# Altium footprint library AD7175-2BRUZ.PcbLib: 3 footprints
Each footprint in its own frame and in the unit in brackets; x right, y up, seen from the top. Pads: shape width x height; smd on the part's side, far side on the other; paste and mask are expansions set on the pad; w line width, h text height; cw(c..) or ccw(c..) is an arc to the next point about the centre after c.
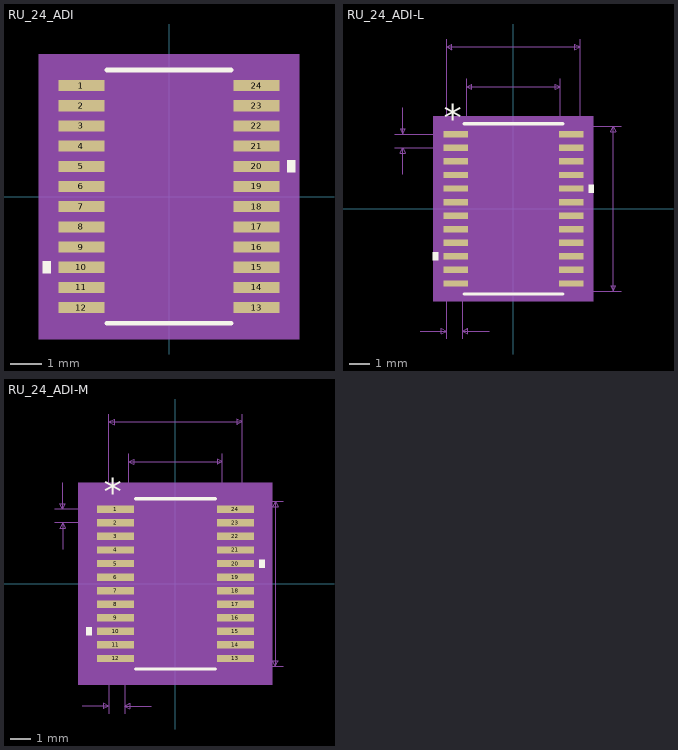
[diagram p0: the footprints below, top view; thin cyan lines are the x and y axes]

## RU_24_ADI [mil]
pads (24):
  rect 58x14 smd paste+0 mask+0: 1(-111,140.75) 2(-111,115.16) 3(-111,89.57) 4(-111,63.98) 5(-111,38.39) 6(-111,12.8) 7(-111,-12.8) 8(-111,-38.39) 9(-111,-63.98) 10(-111,-89.57) 11(-111,-115.16) 12(-111,-140.75) 13(111,-140.75) 14(111,-115.16) 15(111,-89.57) 16(111,-63.98) 17(111,-38.39) 18(111,-12.8) 19(111,12.8) 20(111,38.39) 21(111,63.98) 22(111,89.57) 23(111,115.16) 24(111,140.75)
Top Overlay:
  region: -150,-82.07 -160,-82.07 -160,-97.07 -150,-97.07
  region: 150,45.89 160,45.89 160,30.89 150,30.89
  lines w6: -79,-160.5 79,-160.5 ; -79,160.5 79,160.5
Mechanical 5:
  region: 165,-180.5 -165,-180.5 -165,180.5 165,180.5
Mechanical 13:
  lines w0: -12,155.5 ccw(c0,155.5) 12,155.5
  lines w1: -126,-146.75 -126,-134.75 -88.5,-134.75 -88.5,-146.75 -126,-146.75 ; -126,-121.16 -126,-109.16 -88.5,-109.16 -88.5,-121.16 -126,-121.16 ; -126,-95.57 -126,-83.57 -88.5,-83.57 -88.5,-95.57 -126,-95.57 ; -126,-69.98 -126,-57.98 -88.5,-57.98 -88.5,-69.98 -126,-69.98 ; -126,-44.39 -126,-32.39 -88.5,-32.39 -88.5,-44.39 -126,-44.39 ; -126,-18.8 -126,-6.8 -88.5,-6.8 -88.5,-18.8 -126,-18.8 ; -126,6.8 -126,18.8 -88.5,18.8 -88.5,6.8 -126,6.8 ; -126,32.39 -126,44.39 -88.5,44.39 -88.5,32.39 -126,32.39 ; -126,57.98 -126,69.98 -88.5,69.98 -88.5,57.98 -126,57.98 ; -126,83.57 -126,95.57 -88.5,95.57 -88.5,83.57 -126,83.57 ; -126,109.16 -126,121.16 -88.5,121.16 -88.5,109.16 -126,109.16 ; -126,134.75 -126,146.75 -88.5,146.75 -88.5,134.75 -126,134.75 ; -88.5,-155.5 88.5,-155.5 88.5,155.5 -88.5,155.5 -88.5,-155.5 ; 88.5,-146.75 88.5,-134.75 126,-134.75 126,-146.75 88.5,-146.75 ; 88.5,-121.16 88.5,-109.16 126,-109.16 126,-121.16 88.5,-121.16 ; 88.5,-95.57 88.5,-83.57 126,-83.57 126,-95.57 88.5,-95.57 ; 88.5,-69.98 88.5,-57.98 126,-57.98 126,-69.98 88.5,-69.98 ; 88.5,-44.39 88.5,-32.39 126,-32.39 126,-44.39 88.5,-44.39 ; 88.5,-18.8 88.5,-6.8 126,-6.8 126,-18.8 88.5,-18.8 ; 88.5,6.8 88.5,18.8 126,18.8 126,6.8 88.5,6.8 ; 88.5,32.39 88.5,44.39 126,44.39 126,32.39 88.5,32.39 ; 88.5,57.98 88.5,69.98 126,69.98 126,57.98 88.5,57.98 ; 88.5,83.57 88.5,95.57 126,95.57 126,83.57 88.5,83.57 ; 88.5,109.16 88.5,121.16 126,121.16 126,109.16 88.5,109.16 ; 88.5,134.75 88.5,146.75 126,146.75 126,134.75 88.5,134.75
  text "*" at -86,102.5 h50
Mechanical 15:
  region: -98.5,-157.75 -150,-157.75 -150,157.75 -98.5,157.75 -98.5,165.5 98.5,165.5 98.5,157.75 150,157.75 150,-157.75 98.5,-157.75 98.5,-165.5 -98.5,-165.5
  lines w6: -150,-157.75 -150,157.75 -98.5,157.75 -98.5,165.5 98.5,165.5 98.5,157.75 150,157.75 150,-157.75 98.5,-157.75 98.5,-165.5 -98.5,-165.5 -98.5,-157.75 -150,-157.75
3D body "RU_24_ADI.step": height 47.09, standoff 0, extent -125.98,-155.51 125.98,155.51

## RU_24_ADI-L [mil]
pads (24):
  rect 46x12 smd paste+0 mask+0: 1(-109,140.75) 2(-109,115.16) 3(-109,89.57) 4(-109,63.98) 5(-109,38.39) 6(-109,12.8) 7(-109,-12.8) 8(-109,-38.39) 9(-109,-63.98) 10(-109,-89.57) 11(-109,-115.16) 12(-109,-140.75) 13(109,-140.75) 14(109,-115.16) 15(109,-89.57) 16(109,-63.98) 17(109,-38.39) 18(109,-12.8) 19(109,12.8) 20(109,38.39) 21(109,63.98) 22(109,89.57) 23(109,115.16) 24(109,140.75)
Top Overlay:
  region: 142,45.89 152,45.89 152,30.89 142,30.89
  region: -142,-82.07 -152,-82.07 -152,-97.07 -142,-97.07
  lines w6: -93.5,-160.5 93.5,-160.5 ; -93.5,160.5 93.5,160.5
  text "*" at -131.5,147.75 h50
Mechanical 5:
  region: 151,-174.5 -151,-174.5 -151,174.5 151,174.5
Mechanical 7:
  lines w1: -224,115.16 -109,115.16 ; -224,140.75 -109,140.75 ; -209,65.16 -209,115.16 ; -209,190.75 -209,140.75 ; -176,-230.5 -126,-230.5 ; -126,-245.5 -126,0 -126,320.5 ; -96,-245.5 -96,0 ; -88.5,0 -88.5,245.5 ; -46,-230.5 -96,-230.5 ; 0,-155.5 203.5,-155.5 ; 0,155.5 203.5,155.5 ; 88.5,0 88.5,245.5 ; 126,0 126,320.5 ; -209,115.16 -204,105.16 -214,105.16 -209,115.16 ; -209,140.75 -204,150.75 -214,150.75 -209,140.75 ; -126,-230.5 -136,-235.5 -136,-225.5 -126,-230.5 ; -126,305.5 -116,300.5 -116,310.5 -126,305.5 ; -126,305.5 126,305.5 ; -96,-230.5 -86,-235.5 -86,-225.5 -96,-230.5 ; -88.5,230.5 -78.5,225.5 -78.5,235.5 -88.5,230.5 ; -88.5,230.5 88.5,230.5 ; 88.5,230.5 78.5,225.5 78.5,235.5 88.5,230.5 ; 126,305.5 116,300.5 116,310.5 126,305.5 ; 188.5,-155.5 193.5,-145.5 183.5,-145.5 188.5,-155.5 ; 188.5,-155.5 188.5,155.5 ; 188.5,155.5 193.5,145.5 183.5,145.5 188.5,155.5
  text "0.03in/0.762mm" at -198.5,-275.5 h25
  text "0.026in/0.65mm" at -404,115.45 h25
  text "0.311in/7.899mm" at 208.5,-12.5 h25
  text "0.252in/6.401mm" at -93.75,325.5 h25
  text "0.177in/4.496mm" at -93.75,250.5 h25
  text "Alt 2 Padstyle: OX90Y60D30P" at -337.5,-655.5 h50
  text "Alt 1 Padstyle: OX60Y90D30P" at -337.5,-595.5 h50
  text "Pin One Padstyle: RX46Y12D0T" at -350,-415.5 h50
  text "Default Padstyle: RX46Y12D0T" at -350,-355.5 h50
Mechanical 13:
  lines w0: -12,155.5 ccw(c0,155.5) 12,155.5
  lines w1: -126,-146.75 -88.5,-146.75 -88.5,-134.75 -126,-134.75 -126,-146.75 ; -126,-121.16 -88.5,-121.16 -88.5,-109.16 -126,-109.16 -126,-121.16 ; -126,-95.57 -88.5,-95.57 -88.5,-83.57 -126,-83.57 -126,-95.57 ; -126,-69.98 -88.5,-69.98 -88.5,-57.98 -126,-57.98 -126,-69.98 ; -126,-44.39 -88.5,-44.39 -88.5,-32.39 -126,-32.39 -126,-44.39 ; -126,-18.8 -88.5,-18.8 -88.5,-6.8 -126,-6.8 -126,-18.8 ; -126,6.8 -88.5,6.8 -88.5,18.8 -126,18.8 -126,6.8 ; -126,32.39 -88.5,32.39 -88.5,44.39 -126,44.39 -126,32.39 ; -126,57.98 -88.5,57.98 -88.5,69.98 -126,69.98 -126,57.98 ; -126,83.57 -88.5,83.57 -88.5,95.57 -126,95.57 -126,83.57 ; -126,109.16 -88.5,109.16 -88.5,121.16 -126,121.16 -126,109.16 ; -126,134.75 -88.5,134.75 -88.5,146.75 -126,146.75 -126,134.75 ; -88.5,-155.5 -88.5,155.5 88.5,155.5 88.5,-155.5 -88.5,-155.5 ; 88.5,-146.75 126,-146.75 126,-134.75 88.5,-134.75 88.5,-146.75 ; 88.5,-121.16 126,-121.16 126,-109.16 88.5,-109.16 88.5,-121.16 ; 88.5,-95.57 126,-95.57 126,-83.57 88.5,-83.57 88.5,-95.57 ; 88.5,-69.98 126,-69.98 126,-57.98 88.5,-57.98 88.5,-69.98 ; 88.5,-44.39 126,-44.39 126,-32.39 88.5,-32.39 88.5,-44.39 ; 88.5,-18.8 126,-18.8 126,-6.8 88.5,-6.8 88.5,-18.8 ; 88.5,6.8 126,6.8 126,18.8 88.5,18.8 88.5,6.8 ; 88.5,32.39 126,32.39 126,44.39 88.5,44.39 88.5,32.39 ; 88.5,57.98 126,57.98 126,69.98 88.5,69.98 88.5,57.98 ; 88.5,83.57 126,83.57 126,95.57 88.5,95.57 88.5,83.57 ; 88.5,109.16 126,109.16 126,121.16 88.5,121.16 88.5,109.16 ; 88.5,134.75 126,134.75 126,146.75 88.5,146.75 88.5,134.75
  text "*" at -86,102.5 h50
Mechanical 15:
  region: -92.5,-150.75 -136,-150.75 -136,150.75 -92.5,150.75 -92.5,159.5 92.5,159.5 92.5,150.75 136,150.75 136,-150.75 92.5,-150.75 92.5,-159.5 -92.5,-159.5
  lines w6: -136,-150.75 -92.5,-150.75 -92.5,-159.5 92.5,-159.5 92.5,-150.75 136,-150.75 136,150.75 92.5,150.75 92.5,159.5 -92.5,159.5 -92.5,150.75 -136,150.75 -136,-150.75
3D body "RU_24_ADI.step": height 47.09, standoff 0, extent -125.98,-155.51 125.98,155.51

## RU_24_ADI-M [mil]
pads (24):
  rect 70x14 smd paste+0 mask+0: 1(-113,140.75) 2(-113,115.16) 3(-113,89.57) 4(-113,63.98) 5(-113,38.39) 6(-113,12.8) 7(-113,-12.8) 8(-113,-38.39) 9(-113,-63.98) 10(-113,-89.57) 11(-113,-115.16) 12(-113,-140.75) 13(113,-140.75) 14(113,-115.16) 15(113,-89.57) 16(113,-63.98) 17(113,-38.39) 18(113,-12.8) 19(113,12.8) 20(113,38.39) 21(113,63.98) 22(113,89.57) 23(113,115.16) 24(113,140.75)
Top Overlay:
  region: -158,-82.07 -168,-82.07 -168,-97.07 -158,-97.07
  region: 158,45.89 168,45.89 168,30.89 158,30.89
  lines w6: -75,-160.5 75,-160.5 ; -75,160.5 75,160.5
  text "*" at -135.5,149.75 h50
Mechanical 5:
  region: 183,-190.5 -183,-190.5 -183,190.5 183,190.5
Mechanical 7:
  lines w1: -228,115.16 -113,115.16 ; -228,140.75 -113,140.75 ; -213,65.16 -213,115.16 ; -213,190.75 -213,140.75 ; -176,-230.5 -126,-230.5 ; -126,-245.5 -126,0 -126,320.5 ; -96,-245.5 -96,0 ; -88.5,0 -88.5,245.5 ; -46,-230.5 -96,-230.5 ; 0,-155.5 203.5,-155.5 ; 0,155.5 203.5,155.5 ; 88.5,0 88.5,245.5 ; 126,0 126,320.5 ; -213,115.16 -218,105.16 -208,105.16 -213,115.16 ; -213,140.75 -218,150.75 -208,150.75 -213,140.75 ; -126,-230.5 -136,-225.5 -136,-235.5 -126,-230.5 ; -126,305.5 126,305.5 ; -126,305.5 -116,310.5 -116,300.5 -126,305.5 ; -96,-230.5 -86,-225.5 -86,-235.5 -96,-230.5 ; -88.5,230.5 88.5,230.5 ; -88.5,230.5 -78.5,235.5 -78.5,225.5 -88.5,230.5 ; 88.5,230.5 78.5,235.5 78.5,225.5 88.5,230.5 ; 126,305.5 116,310.5 116,300.5 126,305.5 ; 188.5,-155.5 188.5,155.5 ; 188.5,-155.5 183.5,-145.5 193.5,-145.5 188.5,-155.5 ; 188.5,155.5 183.5,145.5 193.5,145.5 188.5,155.5
  text "Default Padstyle: RX70Y14D0T" at -350,-355.5 h50
  text "Pin One Padstyle: RX70Y14D0T" at -350,-415.5 h50
  text "Alt 1 Padstyle: OX60Y90D30P" at -337.5,-595.5 h50
  text "Alt 2 Padstyle: OX90Y60D30P" at -337.5,-655.5 h50
  text "0.177in/4.496mm" at -93.75,250.5 h25
  text "0.252in/6.401mm" at -93.75,325.5 h25
  text "0.311in/7.899mm" at 208.5,-12.5 h25
  text "0.026in/0.65mm" at -408,115.45 h25
  text "0.03in/0.762mm" at -198.5,-275.5 h25
Mechanical 13:
  lines w0: -12,155.5 ccw(c0,155.5) 12,155.5
  lines w1: -126,-146.75 -126,-134.75 -88.5,-134.75 -88.5,-146.75 -126,-146.75 ; -126,-121.16 -126,-109.16 -88.5,-109.16 -88.5,-121.16 -126,-121.16 ; -126,-95.57 -126,-83.57 -88.5,-83.57 -88.5,-95.57 -126,-95.57 ; -126,-69.98 -126,-57.98 -88.5,-57.98 -88.5,-69.98 -126,-69.98 ; -126,-44.39 -126,-32.39 -88.5,-32.39 -88.5,-44.39 -126,-44.39 ; -126,-18.8 -126,-6.8 -88.5,-6.8 -88.5,-18.8 -126,-18.8 ; -126,6.8 -126,18.8 -88.5,18.8 -88.5,6.8 -126,6.8 ; -126,32.39 -126,44.39 -88.5,44.39 -88.5,32.39 -126,32.39 ; -126,57.98 -126,69.98 -88.5,69.98 -88.5,57.98 -126,57.98 ; -126,83.57 -126,95.57 -88.5,95.57 -88.5,83.57 -126,83.57 ; -126,109.16 -126,121.16 -88.5,121.16 -88.5,109.16 -126,109.16 ; -126,134.75 -126,146.75 -88.5,146.75 -88.5,134.75 -126,134.75 ; -88.5,-155.5 88.5,-155.5 88.5,155.5 -88.5,155.5 -88.5,-155.5 ; 88.5,-146.75 88.5,-134.75 126,-134.75 126,-146.75 88.5,-146.75 ; 88.5,-121.16 88.5,-109.16 126,-109.16 126,-121.16 88.5,-121.16 ; 88.5,-95.57 88.5,-83.57 126,-83.57 126,-95.57 88.5,-95.57 ; 88.5,-69.98 88.5,-57.98 126,-57.98 126,-69.98 88.5,-69.98 ; 88.5,-44.39 88.5,-32.39 126,-32.39 126,-44.39 88.5,-44.39 ; 88.5,-18.8 88.5,-6.8 126,-6.8 126,-18.8 88.5,-18.8 ; 88.5,6.8 88.5,18.8 126,18.8 126,6.8 88.5,6.8 ; 88.5,32.39 88.5,44.39 126,44.39 126,32.39 88.5,32.39 ; 88.5,57.98 88.5,69.98 126,69.98 126,57.98 88.5,57.98 ; 88.5,83.57 88.5,95.57 126,95.57 126,83.57 88.5,83.57 ; 88.5,109.16 88.5,121.16 126,121.16 126,109.16 88.5,109.16 ; 88.5,134.75 88.5,146.75 126,146.75 126,134.75 88.5,134.75
  text "*" at -86,102.5 h50
Mechanical 15:
  region: -108.5,-167.75 -168,-167.75 -168,167.75 -108.5,167.75 -108.5,175.5 108.5,175.5 108.5,167.75 168,167.75 168,-167.75 108.5,-167.75 108.5,-175.5 -108.5,-175.5
  lines w6: -168,-167.75 -168,167.75 -108.5,167.75 -108.5,175.5 108.5,175.5 108.5,167.75 168,167.75 168,-167.75 108.5,-167.75 108.5,-175.5 -108.5,-175.5 -108.5,-167.75 -168,-167.75
3D body "RU_24_ADI.step": height 47.09, standoff 0, extent -125.98,-155.51 125.98,155.51